# Altium schematic symbol library EMI.SchLib: 1 symbol
Pins are listed as number, name and electrical type; pins without a type are passive.

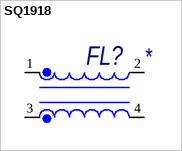
[diagram p0: symbol SQ1918]

## SQ1918
designator FL?
!!! Обязательно Впишите описание символа
footprint SQ1918
pins: 1, 2, 3, 4